# Altium schematic symbol library ABS25-32.768KHZ-6-T.SchLib: 1 symbol
Pins are listed as number, name and electrical type; pins without a type are passive.

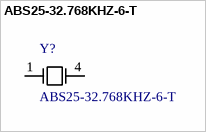
[diagram p0: symbol ABS25-32.768KHZ-6-T]

## ABS25-32.768KHZ-6-T
designator Y?
/ ABS25 Series 32.768 kHz В±20 ppm 6 pF -40 to +85 В°C SMT Low Frequency Crystal /; MF: Abracon; Package: 4-4 Abracon; Digi-Key_Purchase_URL: https://www.digikey.no/product-detail/en/abracon-llc/ABS25-32.768KHZ-6-T/535-10240-1-ND/2218053?utm_source=snapeda&utm_medium=aggregator&utm_campaign=symbol; Digi-Key_Part_Number: 535-10240-1-ND; SnapEDA_Link: https://www.snapeda.com/parts/ABS25-32.768KHZ-6-T/Abracon%20LLC/view-part/?ref=snap; MP: ABS25-32.768KHZ-6-T; Value: *
footprint *XTAL_ABS25-32.768KHZ-6-T
pins: 1, 4